# EAGLE library part OPA691-SO8 (library Neel)
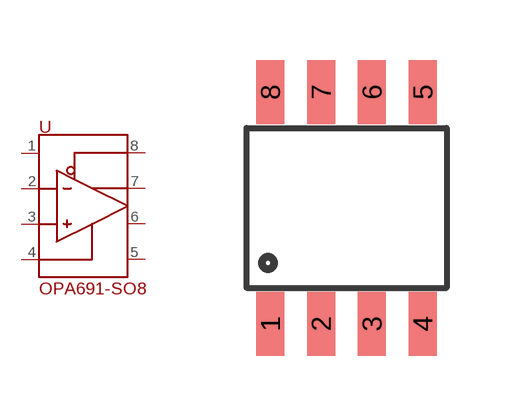
[diagram p31: symbol with the pads of SO-8; footprint SO-8]

Designator prefix -

## OPA691-SO8  [SO-8]
1  P$1
2  P$2
3  P$3
4  P$4
5  P$5
6  P$6
7  P$7
8  P$8

## Footprint SO-8 (pad centres in mm)
smd 0.7 x 1.6: 1 -1.905,-2.9; 2 -0.635,-2.9; 3 0.635,-2.9; 4 1.905,-2.9; 5 1.905,2.9; 6 0.635,2.9; 7 -0.635,2.9; 8 -1.905,2.9